# EAGLE library part NS5-50 (library impellimax-drivers)
Please contact factory for your specific package and pinout needs. www.impellimax.com 603-886-9569
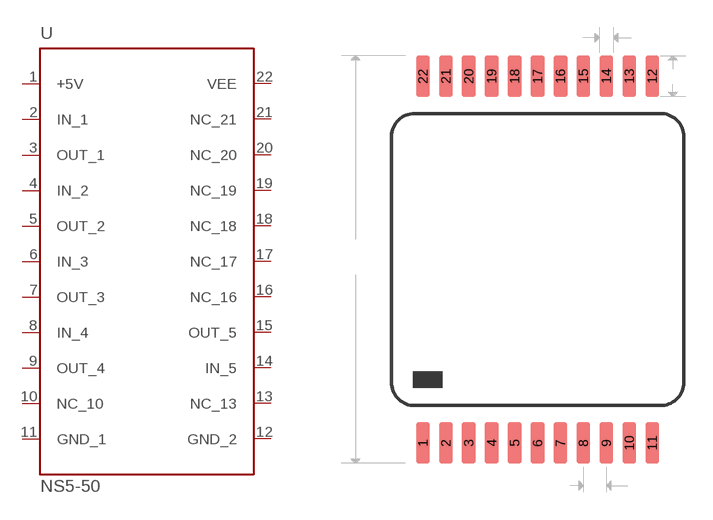
[diagram p24: symbol with the pads of 7408_C133; footprint 7408_C133]

Designator prefix U

## NS5-50  [7408_C133]
1  +5V  in
2  IN_1  in
3  OUT_1  in
4  IN_2  in
5  OUT_2  pas
6  IN_3  in
7  OUT_3  in
8  IN_4  in
9  OUT_4  in
10  NC_10  in
11  GND_1  pas
12  GND_2  in
13  NC_13  in
14  IN_5  in
15  OUT_5  in
16  NC_16  in
17  NC_17  in
18  NC_18  in
19  NC_19  in
20  NC_20  in
21  NC_21  in
22  VEE  in

## Footprint 7408_C133 (pad centres in mm)
package .645 max square actual lead to lead length .840 +/- .020 foot length .040 typ, land pattern .090 lead width .016, land pattern width .030
smd 0.762 x 2.286: 1 -6.351,-10.162; 2 -5.081,-10.158; 3 -3.811,-10.162; 4 -2.541,-10.158; 5 -1.269,-10.161; 6 0.001,-10.163; 7 1.267,-10.161; 8 2.538,-10.163; 9 3.809,-10.161; 10 5.079,-10.162; 11 6.349,-10.158; 12 6.349,10.162; 13 5.079,10.158; 14 3.808,10.158; 15 2.538,10.158; 16 1.268,10.158; 17 0.001,10.158; 18 -1.272,10.158; 19 -2.542,10.158; 20 -3.812,10.158; 21 -5.081,10.162; 22 -6.351,10.158